# Altium schematic symbol library 2171750001.SchLib: 1 symbol
Pins are listed as number, name and electrical type; pins without a type are passive.

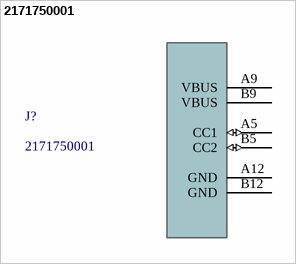
[diagram p0: symbol 2171750001]

## 2171750001
designator J?
Universal Serial Bus (USB) Shielded I/O Receptacle, Type C, Right-Angle,  Surface Mount, Top Mount, 6 Circuits, Gold (Au) Plating; Manufacturer_Name: Molex Connector Corporation; Copyright: Copyright (C) 2025 Ultra Librarian. All rights reserved.; Manufacturer_Part_Number: 2171750001; RefDes: RefDes; Type: Type
footprint 2171750001_MOL
pins: A5 CC1 (io), A9 VBUS (power), A12 GND (power), B5 CC2 (io), B9 VBUS (power), B12 GND (power)